# Altium integrated library 0402WGF1001TCE.IntLib: 1 symbol
Pins are listed as number, name and electrical type; pins without a type are passive.

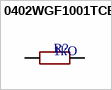
[diagram p0: symbol 0402WGF1001TCE]

## 0402WGF1001TCE
designator R?  value 1kO  (hidden comment: 0402WGF1001TCE)
Resistors. -55C~+155C 1kohm 50V 62.5mW Thick Film Resistor +/-1% +/-100ppm/C 0402 Chip Resistor - Surface Mount ROHS; Manufacturer: UNI-ROYAL(Uniroyal Elec); Component Type: Resistors; Design Item ID: 0402WGF1001TCE; JLCPCB Part #: C11702; Manufacturer Part Number: 0402WGF1001TCE
footprint 0402WGF1001TCE (R0402)
pins: 1, 2